# Altium footprint library 8P_RJ45-SPE-44144-0003.PcbLib: 1 footprints
Each footprint in its own frame and in the unit in brackets; x right, y up, seen from the top. Pads: shape width x height; smd on the part's side, far side on the other; paste and mask are expansions set on the pad; w line width, h text height; cw(c..) or ccw(c..) is an arc to the next point about the centre after c.
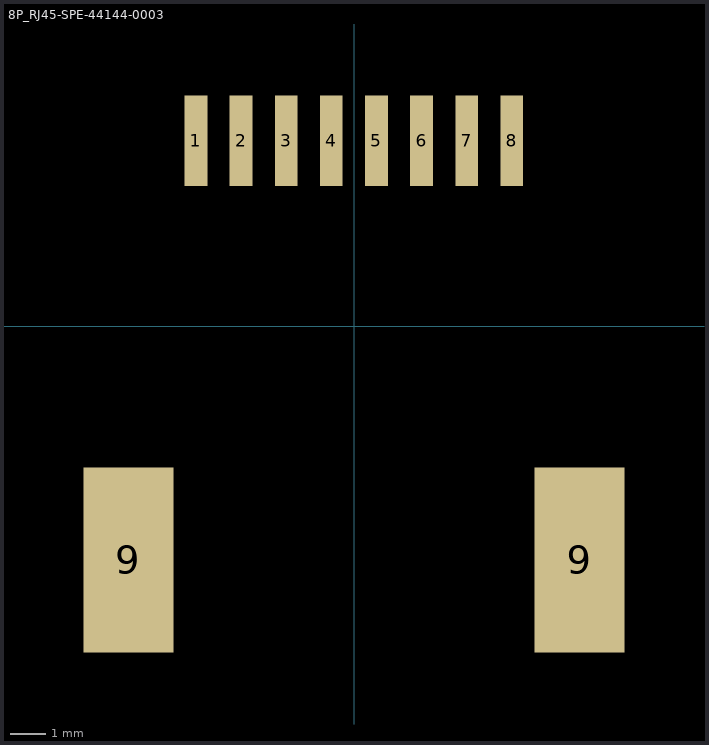
[diagram p0: the footprint, top view; thin cyan lines are the x and y axes]

## 8P_RJ45-SPE-44144-0003 [mm] "RJ45 connector CMS"
height 5.33
pads (10):
  rect 0.64x2.54 smd: 1(-4.45,5.225) 2(-3.18,5.225) 3(-1.91,5.225) 4(-0.64,5.225) 5(0.63,5.225) 6(1.9,5.225) 7(3.17,5.225) 8(4.44,5.225)
  rect 2.54x5.21 smd: 9(-6.35,-6.57) 9(6.35,-6.57)
3D body: height 11.75, standoff 0.02, extent -7.62,-12.065 7.62,6.325